# Altium schematic symbol library ss14.SchLib: 1 symbol
Pins are listed as number, name and electrical type; pins without a type are passive.

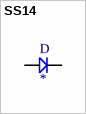
[diagram p0: symbol SS14]

## SS14
designator D
Diode Schottky 40V 1A Surface Mount SMA _DO-214AC_; MP: SS14; MF: ON Semiconductor; Availability: Unavailable; Price: None; Value: *; SnapEDA_Link: https://www.snapeda.com/parts/SS14/ON%20Semiconductor/view-part/1413348/?ref=snap; Package: DO-214AC-214 ON Semiconductor
footprint DO214
pins: ANODE (io), CATHODE KATHODE (io)